# Altium schematic symbol library Ai-Thinker BU01-Kit DW1000.SchLib: 1 symbol
Pins are listed as number, name and electrical type; pins without a type are passive.

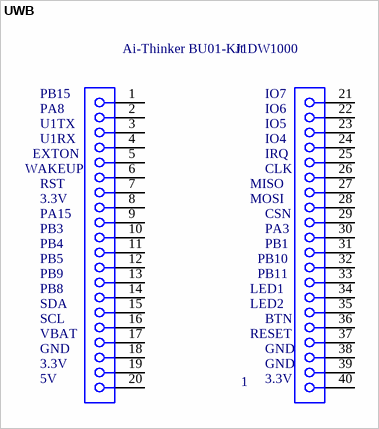
[diagram p0: symbol UWB]

## UWB
designator J1, comment 1
THT Vertical Socket Header WR-PHD, Pitch 2.54 mm, Single Row, 20 pins; Contact Resistance: 20mΩ; Gender: Female; Current Rating: 3A; Operating Supply Voltage: 250V; Lead Pitch: 2.54mm; Orientation: Vertical; Number of Pins: 40
footprint 61302011821 (Socket Header, Pitch 2.54 mm, THT, Vertical, single row, 20p)
footprint 61302011821 (Socket Header, Pitch 2.54 mm, THT, Vertical, single row, 20p)
pins: 1, 2, 3, 4, 5, 6, 7, 8, 9, 10, 11, 12, 13, 14, 15, 16, 17, 18, 19, 20, 21, 22, 23, 24, 25, 26, 27, 28, 29, 30, 31, 32, 33, 34, 35, 36, 37, 38, 39, 40
text: Ai-Thinker BU01-Kit DW1000; PB15; IO7; PA8; IO6; U1TX; IO5; U1RX; IO4; EXTON; IRQ; WAKEUP; CLK; RST; MISO; 3.3V; MOSI; PA15; CSN; PB3; PA3; PB4; PB1; PB5; PB10; PB9; PB11; PB8; LED1; SDA; LED2; SCL; BTN; VBAT; RESET; GND; 5V